# EAGLE library part RASPBERRY_PI_3B (library m_som)
Raspberry Pi 3B with 40-pin GPIO header Features The Raspberry Pi 3 Model B builds upon the features of its predecessors with a new, faster processor on board to increase its speed. It also features WiFi and Bluetooth Low Energy capabilities to enhance the functionality and the ability to power more powerful devices over the USB ports. Quad Core 1.2GHz Broadcom BCM2837 64bit CPU 1GB RAM BCM43438 WiFi and Bluetooth Low Energy (BLE) on board 40-pin Extended GPIO 4x USB 2 ports 4 Pole stereo output and composite video port Full size HDMI CSI camera port for connecting a Raspberry Pi camera DSI display port for connecting a Raspberry Pi touchscreen display Micro SD port for loading your operating system and storing data Upgraded switched Micro USB power source up to 2.5A Requires appropriate PCB Header Newark product page <http://www.newark.com/raspberry-pi/raspberrypi3-modb-1gb/sbc-raspberry-pi-3-mod-b-1gb-ram/dp/77Y6520> Octopart Search <https://octopart.com/search?q=RASPBERRYPI3-MODB-1GB> Added 2017-03-20
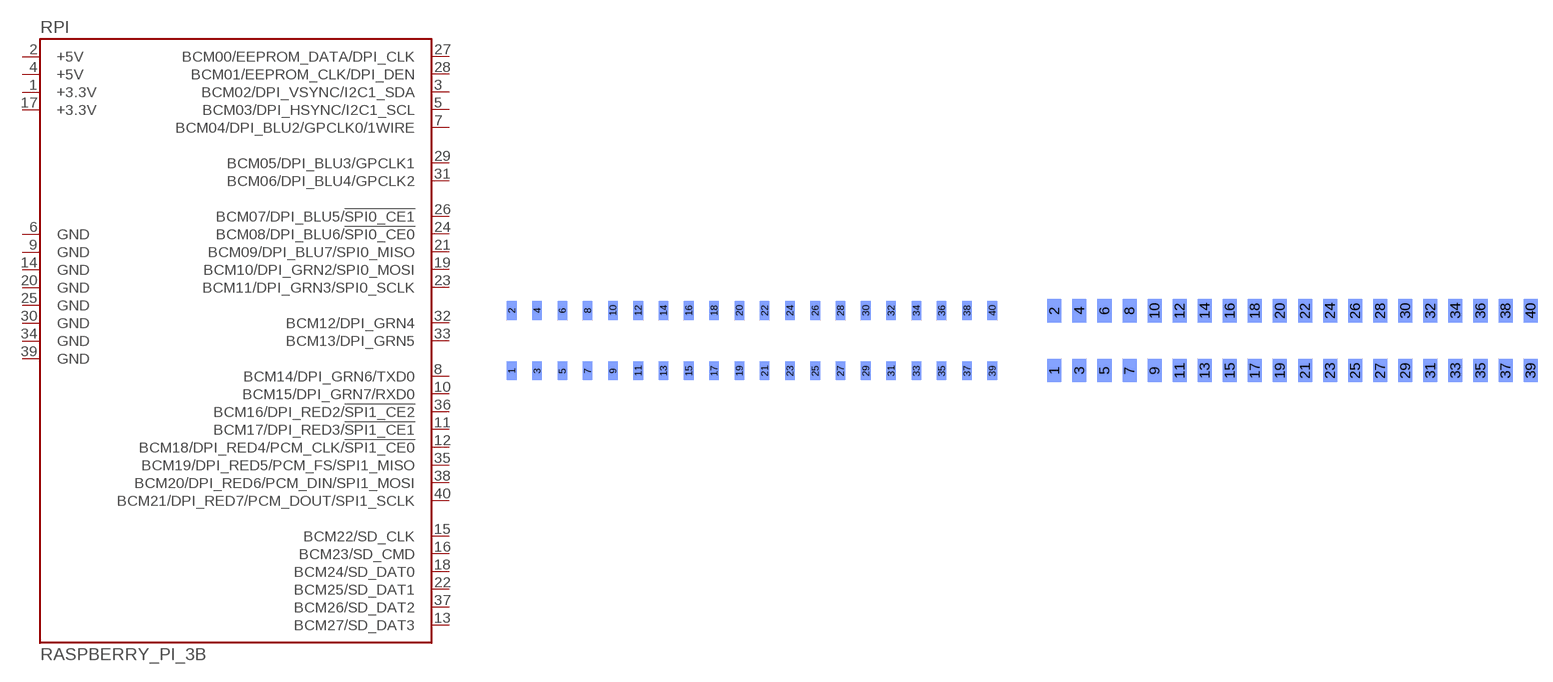
[diagram p1: symbol with the pads of RASPBERRY_PI_40_SMT_3M; footprints RASPBERRY_PI_40_SMT_3M, RASPBERRY_PI_40_SMT_TE]

Designator prefix RPI

## RASPBERRY_PI_3B_SMT_3M (MANUF: Raspberry Pi; PARTNUM: RASPBERRYPI3-MODB-1GB)  [RASPBERRY_PI_40_SMT_3M]
1  +3.3V  pas
2  +5V  pas
3  BCM02/DPI_VSYNC/I2C1_SDA  pas
4  +5V  pas
5  BCM03/DPI_HSYNC/I2C1_SCL  pas
6  GND  pas
7  BCM04/DPI_BLU2/GPCLK0/1WIRE  pas
8  BCM14/DPI_GRN6/TXD0  pas
9  GND  pas
10  BCM15/DPI_GRN7/RXD0  pas
11  BCM17/DPI_RED3/!SPI1_CE1  pas
12  BCM18/DPI_RED4/PCM_CLK/!SPI1_CE0  pas
13  BCM27/SD_DAT3  pas
14  GND  pas
15  BCM22/SD_CLK  pas
16  BCM23/SD_CMD  pas
17  +3.3V  pas
18  BCM24/SD_DAT0  pas
19  BCM10/DPI_GRN2/SPI0_MOSI  pas
20  GND  pas
21  BCM09/DPI_BLU7/SPI0_MISO  pas
22  BCM25/SD_DAT1  pas
23  BCM11/DPI_GRN3/SPI0_SCLK  pas
24  BCM08/DPI_BLU6/!SPI0_CE0  pas
25  GND  pas
26  BCM07/DPI_BLU5/!SPI0_CE1  pas
27  BCM00/EEPROM_DATA/DPI_CLK  pas
28  BCM01/EEPROM_CLK/DPI_DEN  pas
29  BCM05/DPI_BLU3/GPCLK1  pas
30  GND  pas
31  BCM06/DPI_BLU4/GPCLK2  pas
32  BCM12/DPI_GRN4  pas
33  BCM13/DPI_GRN5  pas
34  GND  pas
35  BCM19/DPI_RED5/PCM_FS/SPI1_MISO  pas
36  BCM16/DPI_RED2/!SPI1_CE2  pas
37  BCM26/SD_DAT2  pas
38  BCM20/DPI_RED6/PCM_DIN/SPI1_MOSI  pas
39  GND  pas
40  BCM21/DPI_RED7/PCM_DOUT/SPI1_SCLK  pas

## RASPBERRY_PI_3B_SMT_TE  [RASPBERRY_PI_40_SMT_TE]
Pads as for RASPBERRY_PI_40_SMT_3M

## RASPBERRY_PI_3B_TH_3M  [RASPBERRY_PI_40_TH_3M]
Pads as for RASPBERRY_PI_40_SMT_3M

## RASPBERRY_PI_3B_TH_SAMTEC_ESW  [RASPBERRY_PI_40_TH_SAMTEC_ESW]
Pads as for RASPBERRY_PI_40_SMT_3M

## RASPBERRY_PI_3B_TH_SAMTEC_ESW_FULL_OUTLINE  [RASPBERRY_PI3B_40_SAMTEC_ESW]
Pads as for RASPBERRY_PI_40_SMT_3M

## Footprint RASPBERRY_PI_40_SMT_3M (pad centres in mm)
Housing for Raspberry Pi 40-pin header, SMT Pin numbering is as viewed from above PI when housing is mated to connector. Uses 1x 3M 963 Series surface mount socket, part number 963240-2000-AR-* <https://octopart.com/search?q=963240-2000-AR-*>
smd 1.02 x 1.82 bottom: 1 -24.13,-3.035; 2 -24.13,3.035; 3 -21.59,-3.035; 4 -21.59,3.035; 5 -19.05,-3.035; 6 -19.05,3.035; 7 -16.51,-3.035; 8 -16.51,3.035; 9 -13.97,-3.035; 10 -13.97,3.035; 11 -11.43,-3.035; 12 -11.43,3.035; 13 -8.89,-3.035; 14 -8.89,3.035; 15 -6.35,-3.035; 16 -6.35,3.035; 17 -3.81,-3.035; 18 -3.81,3.035; 19 -1.27,-3.035; 20 -1.27,3.035; 21 1.27,-3.035; 22 1.27,3.035; 23 3.81,-3.035; 24 3.81,3.035; 25 6.35,-3.035; 26 6.35,3.035; 27 8.89,-3.035; 28 8.89,3.035; 29 11.43,-3.035; 30 11.43,3.035; 31 13.97,-3.035; 32 13.97,3.035; 33 16.51,-3.035; 34 16.51,3.035; 35 19.05,-3.035; 36 19.05,3.035; 37 21.59,-3.035; 38 21.59,3.035; 39 24.13,-3.035; 40 24.13,3.035

## Footprint RASPBERRY_PI_40_SMT_TE (pad centres in mm)
Housing for Raspberry Pi 40-pin header, SMT Pin numbering is as viewed from above PI when housing is mated to connector. Uses 4x TE Connectivity / AMP 969973-5 housings in a row
smd 1.5 x 2.33 bottom: 1 -24.13,-3.035; 2 -24.13,3.035; 3 -21.59,-3.035; 4 -21.59,3.035; 5 -19.05,-3.035; 6 -19.05,3.035; 7 -16.51,-3.035; 8 -16.51,3.035; 9 -13.97,-3.035; 10 -13.97,3.035; 11 -11.43,-3.035; 12 -11.43,3.035; 13 -8.89,-3.035; 14 -8.89,3.035; 15 -6.35,-3.035; 16 -6.35,3.035; 17 -3.81,-3.035; 18 -3.81,3.035; 19 -1.27,-3.035; 20 -1.27,3.035; 21 1.27,-3.035; 22 1.27,3.035; 23 3.81,-3.035; 24 3.81,3.035; 25 6.35,-3.035; 26 6.35,3.035; 27 8.89,-3.035; 28 8.89,3.035; 29 11.43,-3.035; 30 11.43,3.035; 31 13.97,-3.035; 32 13.97,3.035; 33 16.51,-3.035; 34 16.51,3.035; 35 19.05,-3.035; 36 19.05,3.035; 37 21.59,-3.035; 38 21.59,3.035; 39 24.13,-3.035; 40 24.13,3.035

## Footprint RASPBERRY_PI_40_TH_3M (pad centres in mm)
Housing for Raspberry Pi 40-pin header, Through Hole Pin numbering is as viewed from above PI when housing is mated to connector. Uses 1x 3M 960 Series surface through-hole socket, part number 960240-6?02?-AR <https://octopart.com/search?q=960240-6%3F02%3F-*>
drill 1.02 square: 1 -24.13,-1.27
drill 1.02: 2 -24.13,1.27; 3 -21.59,-1.27; 4 -21.59,1.27; 5 -19.05,-1.27; 6 -19.05,1.27; 7 -16.51,-1.27; 8 -16.51,1.27; 9 -13.97,-1.27; 10 -13.97,1.27; 11 -11.43,-1.27; 12 -11.43,1.27; 13 -8.89,-1.27; 14 -8.89,1.27; 15 -6.35,-1.27; 16 -6.35,1.27; 17 -3.81,-1.27; 18 -3.81,1.27; 19 -1.27,-1.27; 20 -1.27,1.27; 21 1.27,-1.27; 22 1.27,1.27; 23 3.81,-1.27; 24 3.81,1.27; 25 6.35,-1.27; 26 6.35,1.27; 27 8.89,-1.27; 28 8.89,1.27; 29 11.43,-1.27; 30 11.43,1.27; 31 13.97,-1.27; 32 13.97,1.27; 33 16.51,-1.27; 34 16.51,1.27; 35 19.05,-1.27; 36 19.05,1.27; 37 21.59,-1.27; 38 21.59,1.27; 39 24.13,-1.27; 40 24.13,1.27

## Footprint RASPBERRY_PI_40_TH_SAMTEC_ESW (pad centres in mm)
Samtec ESW Housing for Raspberry Pi 40-pin header, Through Hole Pin numbering is as viewed from above PI when housing is mated to connector. Uses 1x Samtec Elevated Socket Strip <https://www.samtec.com/products/esw> socket, part number ESW-120-37-G-D <https://octopart.com/search?q=ESW-120-37-G-D>
drill 1.02 square: 1 -24.13,-1.27
drill 1.02: 2 -24.13,1.27; 3 -21.59,-1.27; 4 -21.59,1.27; 5 -19.05,-1.27; 6 -19.05,1.27; 7 -16.51,-1.27; 8 -16.51,1.27; 9 -13.97,-1.27; 10 -13.97,1.27; 11 -11.43,-1.27; 12 -11.43,1.27; 13 -8.89,-1.27; 14 -8.89,1.27; 15 -6.35,-1.27; 16 -6.35,1.27; 17 -3.81,-1.27; 18 -3.81,1.27; 19 -1.27,-1.27; 20 -1.27,1.27; 21 1.27,-1.27; 22 1.27,1.27; 23 3.81,-1.27; 24 3.81,1.27; 25 6.35,-1.27; 26 6.35,1.27; 27 8.89,-1.27; 28 8.89,1.27; 29 11.43,-1.27; 30 11.43,1.27; 31 13.97,-1.27; 32 13.97,1.27; 33 16.51,-1.27; 34 16.51,1.27; 35 19.05,-1.27; 36 19.05,1.27; 37 21.59,-1.27; 38 21.59,1.27; 39 24.13,-1.27; 40 24.13,1.27

## Footprint RASPBERRY_PI3B_40_SAMTEC_ESW (pad centres in mm)
Raspberry Pi3B with Samtec ESW Housing for 40-pin header, Through Hole Pin numbering is as viewed from above PI when housing is mated to connector. Uses 1x Samtec Elevated Socket Strip <https://www.samtec.com/products/esw> socket, part number ESW-120-37-G-D <https://octopart.com/search?q=ESW-120-37-G-D>
drill 1.02 square: 1 -24.13,-1.27
drill 1.02: 2 -24.13,1.27; 3 -21.59,-1.27; 4 -21.59,1.27; 5 -19.05,-1.27; 6 -19.05,1.27; 7 -16.51,-1.27; 8 -16.51,1.27; 9 -13.97,-1.27; 10 -13.97,1.27; 11 -11.43,-1.27; 12 -11.43,1.27; 13 -8.89,-1.27; 14 -8.89,1.27; 15 -6.35,-1.27; 16 -6.35,1.27; 17 -3.81,-1.27; 18 -3.81,1.27; 19 -1.27,-1.27; 20 -1.27,1.27; 21 1.27,-1.27; 22 1.27,1.27; 23 3.81,-1.27; 24 3.81,1.27; 25 6.35,-1.27; 26 6.35,1.27; 27 8.89,-1.27; 28 8.89,1.27; 29 11.43,-1.27; 30 11.43,1.27; 31 13.97,-1.27; 32 13.97,1.27; 33 16.51,-1.27; 34 16.51,1.27; 35 19.05,-1.27; 36 19.05,1.27; 37 21.59,-1.27; 38 21.59,1.27; 39 24.13,-1.27; 40 24.13,1.27
hole 2.54 at -29,0
hole 2.54 at 29,0
hole 2.54 at 29,-49
hole 2.54 at -29,-49